# EAGLE library part Q_ARDUINO_ETHERNET_UPD (library MRDT-2014-All)
ARDUINO Ethernet Board, placed upside down on top of PCB
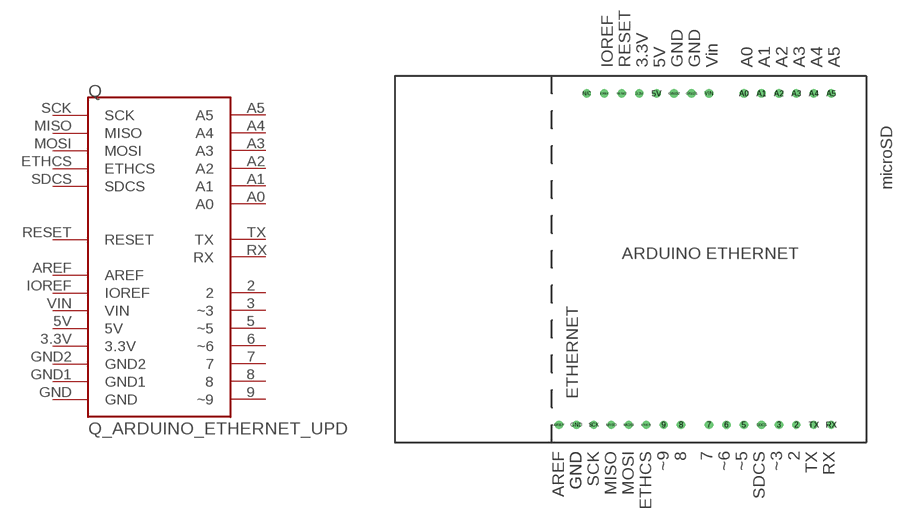
[diagram p14: symbol with the pads of ARDUION_R3_UPSIDEDOWN; footprint ARDUION_R3_UPSIDEDOWN]

Designator prefix Q

## Q_ARDUINO_ETHERNET_UPD  [ARDUION_R3_UPSIDEDOWN]
2  2
3  ~3
3.3V  3.3V
5  ~5
5V  5V
6  ~6
7  7
8  8
9  ~9
A0  A0
A1  A1
A2  A2
A3  A3
A4  A4
A5  A5
AREF  AREF
ETHCS  ETHCS
GND  GND
GND1  GND1
GND2  GND2
IOREF  IOREF
MISO  MISO
MOSI  MOSI
RESET  RESET
RX  RX
SCK  SCK
SDCS  SDCS
TX  TX
VIN  VIN

## Footprint ARDUION_R3_UPSIDEDOWN (pad centres in mm)
drill 0.7: 2 -10.16,2.54; 3 -12.7,2.54; 3.3V -33.02,50.8; 5 -17.78,2.54; 5V -30.48,50.8; 6 -20.32,2.54; 7 -22.86,2.54; 8 -26.924,2.54; 9 -29.464,2.54; A0 -17.78,50.8; A1 -15.24,50.8; A2 -12.7,50.8; A3 -10.16,50.8; A4 -7.62,50.8; A5 -5.08,50.8; AREF -44.704,2.54; ETHCS -32.004,2.54; GND -42.164,2.54; GND1 -25.4,50.8; GND2 -27.94,50.8; IOREF -38.1,50.8; MISO -37.084,2.54; MOSI -34.544,2.54; N/C -40.64,50.8; RESET -35.56,50.8; RX -5.08,2.54; SCK -39.624,2.54; SDCS -15.24,2.54; TX -7.62,2.54; VIN -22.86,50.8